# Altium schematic symbol library CON-IDC-2x5-M-RA.Schlib: 1 symbol
Pins are listed as number, name and electrical type; pins without a type are passive.

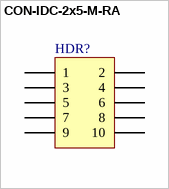
[diagram p0: symbol CON-IDC-2x5-M-RA]

## CON-IDC-2x5-M-RA
designator HDR?
Header, 5-Pin, Dual row, Right angle boxed
pins: 1, 2, 3, 4, 5, 6, 7, 8, 9, 10